# Altium footprint library Basic.PcbLib: 23 footprints (part 2 of 2)
Each footprint in its own frame and in the unit in brackets; x right, y up, seen from the top. Pads: shape width x height; smd on the part's side, far side on the other; paste and mask are expansions set on the pad; w line width, h text height; cw(c..) or ccw(c..) is an arc to the next point about the centre after c.
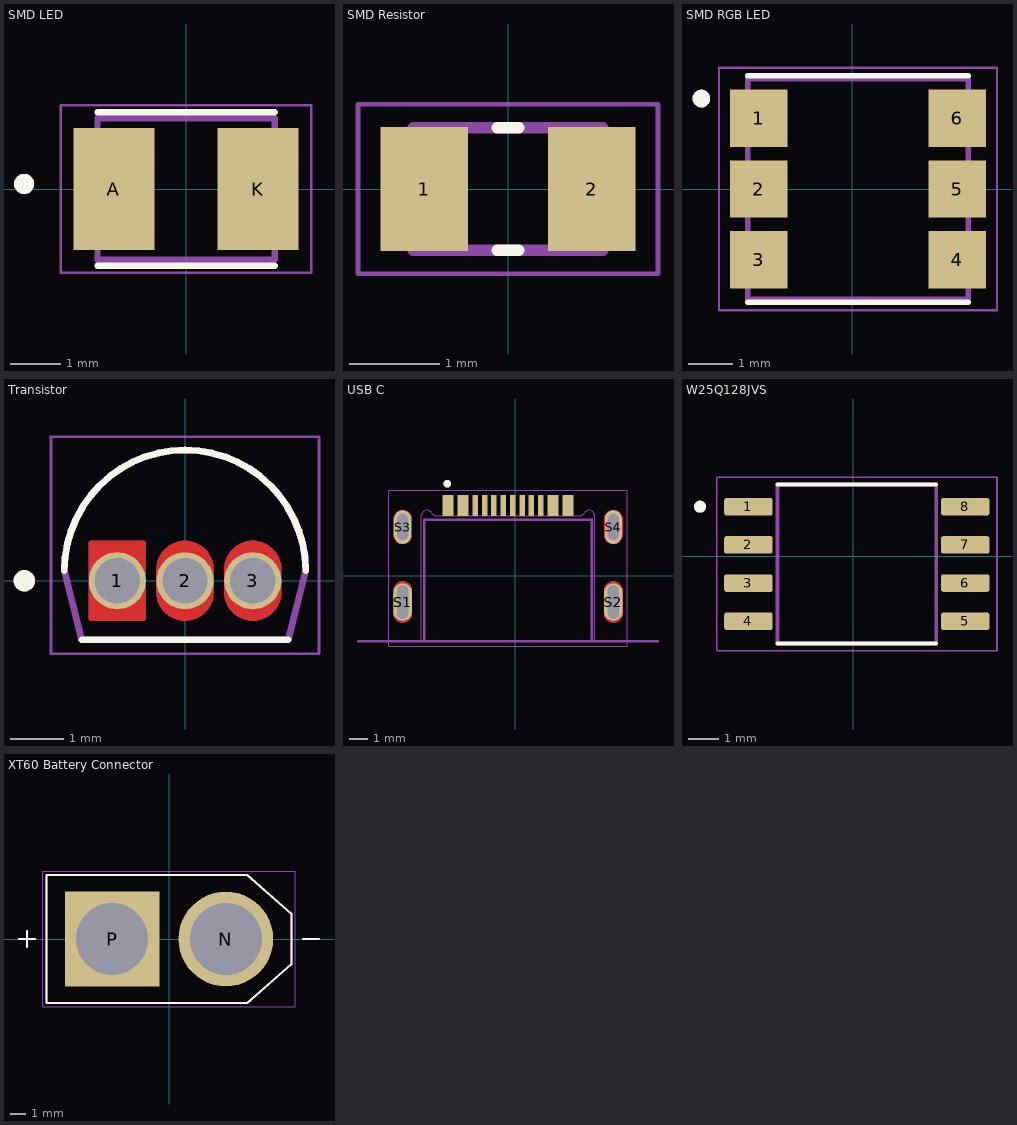
[diagram p1: the footprints below, top view; thin cyan lines are the x and y axes]

## SMD LED [mm]
pads (2):
  rect 1.6x2.4 smd: A(-1.425,0) K(1.425,0)
Top Overlay:
  circle w0.2: c-3.2,0.1 r0.1
  lines w0.127: -1.75,-1.513 1.75,-1.513 ; -1.75,1.513 1.75,1.513
Mechanical 13:
  circle w0.2: c-3.2,0.1 r0.1
  lines w0.127: -1.75,-1.4 1.75,-1.4 1.75,1.4 -1.75,1.4 -1.75,-1.4
Mechanical 15:
  lines w0.05: -2.475,-1.65 2.475,-1.65 2.475,1.65 -2.475,1.65 -2.475,-1.65
3D body "step_temp.STEP": height 1.9, standoff 0, extent -1.75,-1.4 1.75,1.4

## SMD Resistor [mm]
pads (2):
  rect 0.97x1.38 smd: 1(-0.93,0) 2(0.93,0)
Top Overlay:
  lines w0.127: -0.12,-0.68 0.12,-0.68 ; -0.12,0.68 0.12,0.68
Mechanical 13:
  lines w0.127: -1.05,-0.68 -1.05,0.68 1.05,0.68 1.05,-0.68 -1.05,-0.68
Mechanical 15:
  lines w0.05: -1.665,-0.94 -1.665,0.94 1.665,0.94 1.665,-0.94 -1.665,-0.94
3D body "SMDResistor.STEP": height 0.6, standoff 0, extent -0.984,-0.625 1.016,0.625

## SMD RGB LED [mm]
pads (6):
  rect 1.3x1.3 smd: 1(-2.123,1.6) 2(-2.123,0) 3(-2.123,-1.6) 4(2.377,-1.6) 5(2.377,0) 6(2.377,1.6)
Top Overlay:
  circle w0.2: c-3.423,2.05 r0.1
  lines w0.127: -2.373,-2.57 2.627,-2.57 ; -2.373,2.57 2.627,2.57
Mechanical 13:
  circle w0.2: c-3.423,2.05 r0.1
  lines w0.127: -2.373,-2.5 2.627,-2.5 2.627,2.5 -2.373,2.5 -2.373,-2.5
Mechanical 15:
  lines w0.05: -3.023,-2.75 -3.023,2.75 3.277,2.75 3.277,-2.75 -3.023,-2.75
3D body "step_temp.STEP": height 1.6, standoff 0, extent -2.573,-2.5 2.827,2.5

## Transistor [mm]
pads (3):
  round 1.07 hole 0.85 mask+0: 1(-1.27,0) 2(0,0) 3(1.27,0)
Top Layer:
  region: 0.028,0.749 0.056,0.747 0.084,0.743 0.111,0.738 0.138,0.732 0.165,0.724 0.192,0.714 0.218,0.704 0.243,0.692 0.268,0.678 0.291,0.664 0.314,0.648 0.337,0.631 0.358,0.613 0.378,0.593 0.398,0.573 0.416,0.552 0.433,0.529 0.449,0.506 0.463,0.482 0.477,0.458 0.489,0.433 0.499,0.407 0.509,0.38 0.517,0.353 0.523,0.326 0.528,0.299 0.532,0.271 0.534,0.243 0.535,0.215 0.535,-0.215 0.534,-0.243 0.532,-0.271 0.528,-0.299 0.523,-0.326 0.517,-0.353 0.509,-0.38 0.499,-0.407 0.489,-0.433 0.477,-0.458 0.463,-0.482 0.449,-0.506 0.433,-0.529 0.416,-0.552 0.398,-0.573 0.378,-0.593 0.358,-0.613 0.337,-0.631 0.314,-0.648 0.291,-0.664 0.268,-0.678 0.243,-0.692 0.218,-0.704 0.192,-0.714 0.165,-0.724 0.138,-0.732 0.111,-0.738 0.084,-0.743 0.056,-0.747 0.028,-0.749 0,-0.75 -0.028,-0.749 -0.056,-0.747 -0.084,-0.743 -0.111,-0.738 -0.138,-0.732 -0.165,-0.724 -0.192,-0.714 -0.218,-0.704 -0.243,-0.692 -0.267,-0.678 -0.291,-0.664 -0.314,-0.648 -0.337,-0.631 -0.358,-0.613 -0.378,-0.593 -0.398,-0.573 -0.416,-0.552 -0.433,-0.529 -0.449,-0.506 -0.463,-0.482 -0.477,-0.458 -0.489,-0.433 -0.499,-0.407 -0.509,-0.38 -0.517,-0.353 -0.523,-0.326 -0.528,-0.299 -0.532,-0.271 -0.534,-0.243 -0.535,-0.215 -0.535,0.215 -0.534,0.243 -0.532,0.271 -0.528,0.299 -0.523,0.326 -0.517,0.353 -0.509,0.38 -0.499,0.407 -0.489,0.433 -0.477,0.458 -0.463,0.482 -0.449,0.506 -0.433,0.529 -0.416,0.552 -0.398,0.573 -0.378,0.593 -0.358,0.613 -0.337,0.631 -0.314,0.648 -0.291,0.664 -0.267,0.678 -0.243,0.692 -0.218,0.704 -0.192,0.714 -0.165,0.724 -0.138,0.732 -0.111,0.738 -0.084,0.743 -0.056,0.747 -0.028,0.749 0,0.75
  region: 1.298,0.749 1.326,0.747 1.354,0.743 1.381,0.738 1.408,0.732 1.435,0.724 1.462,0.714 1.488,0.704 1.513,0.692 1.538,0.678 1.561,0.664 1.584,0.648 1.607,0.631 1.628,0.613 1.648,0.593 1.668,0.573 1.686,0.552 1.703,0.529 1.719,0.506 1.733,0.482 1.747,0.458 1.759,0.433 1.769,0.407 1.779,0.38 1.787,0.353 1.793,0.326 1.798,0.299 1.802,0.271 1.804,0.243 1.805,0.215 1.805,-0.215 1.804,-0.243 1.802,-0.271 1.798,-0.299 1.793,-0.326 1.787,-0.353 1.779,-0.38 1.769,-0.407 1.759,-0.433 1.747,-0.458 1.733,-0.482 1.719,-0.506 1.703,-0.529 1.686,-0.552 1.668,-0.573 1.648,-0.593 1.628,-0.613 1.607,-0.631 1.584,-0.648 1.561,-0.664 1.538,-0.678 1.513,-0.692 1.488,-0.704 1.462,-0.714 1.435,-0.724 1.408,-0.732 1.381,-0.738 1.354,-0.743 1.326,-0.747 1.298,-0.749 1.27,-0.75 1.242,-0.749 1.214,-0.747 1.186,-0.743 1.159,-0.738 1.132,-0.732 1.105,-0.724 1.078,-0.714 1.052,-0.704 1.027,-0.692 1.003,-0.678 0.979,-0.664 0.956,-0.648 0.933,-0.631 0.912,-0.613 0.892,-0.593 0.872,-0.573 0.854,-0.552 0.837,-0.529 0.821,-0.506 0.807,-0.482 0.793,-0.458 0.781,-0.433 0.771,-0.407 0.761,-0.38 0.753,-0.353 0.747,-0.326 0.742,-0.299 0.738,-0.271 0.736,-0.243 0.735,-0.215 0.735,0.215 0.736,0.243 0.738,0.271 0.742,0.299 0.747,0.326 0.753,0.353 0.761,0.38 0.771,0.407 0.781,0.433 0.793,0.458 0.807,0.482 0.821,0.506 0.837,0.529 0.854,0.552 0.872,0.573 0.892,0.593 0.912,0.613 0.933,0.631 0.956,0.648 0.979,0.664 1.003,0.678 1.027,0.692 1.052,0.704 1.078,0.714 1.105,0.724 1.132,0.732 1.159,0.738 1.186,0.743 1.214,0.747 1.242,0.749 1.27,0.75
  region: -0.777,0.749 -0.775,0.749 -0.772,0.748 -0.77,0.748 -0.767,0.747 -0.765,0.746 -0.762,0.745 -0.76,0.743 -0.758,0.742 -0.756,0.74 -0.754,0.739 -0.752,0.737 -0.75,0.735 -0.748,0.733 -0.746,0.731 -0.745,0.729 -0.743,0.727 -0.742,0.725 -0.74,0.723 -0.739,0.72 -0.738,0.718 -0.737,0.715 -0.737,0.713 -0.736,0.71 -0.736,0.708 -0.735,0.705 -0.735,0.703 -0.735,0.7 -0.735,-0.7 -0.735,-0.703 -0.735,-0.705 -0.736,-0.708 -0.736,-0.71 -0.737,-0.713 -0.737,-0.715 -0.738,-0.718 -0.739,-0.72 -0.74,-0.723 -0.742,-0.725 -0.743,-0.727 -0.745,-0.729 -0.746,-0.731 -0.748,-0.733 -0.75,-0.735 -0.752,-0.737 -0.754,-0.739 -0.756,-0.74 -0.758,-0.742 -0.76,-0.743 -0.762,-0.745 -0.765,-0.746 -0.767,-0.747 -0.77,-0.748 -0.772,-0.748 -0.775,-0.749 -0.777,-0.749 -0.78,-0.75 -1.76,-0.75 -1.763,-0.749 -1.765,-0.749 -1.768,-0.748 -1.77,-0.748 -1.773,-0.747 -1.775,-0.746 -1.778,-0.745 -1.78,-0.743 -1.782,-0.742 -1.784,-0.74 -1.786,-0.739 -1.788,-0.737 -1.79,-0.735 -1.792,-0.733 -1.794,-0.731 -1.795,-0.729 -1.797,-0.727 -1.798,-0.725 -1.8,-0.723 -1.801,-0.72 -1.802,-0.718 -1.803,-0.715 -1.803,-0.713 -1.804,-0.71 -1.804,-0.708 -1.805,-0.705 -1.805,-0.703 -1.805,-0.7 -1.805,0.7 -1.805,0.703 -1.805,0.705 -1.804,0.708 -1.804,0.71 -1.803,0.713 -1.803,0.715 -1.802,0.718 -1.801,0.72 -1.8,0.723 -1.798,0.725 -1.797,0.727 -1.795,0.729 -1.794,0.731 -1.792,0.733 -1.79,0.735 -1.788,0.737 -1.786,0.739 -1.784,0.74 -1.782,0.742 -1.78,0.743 -1.778,0.745 -1.775,0.746 -1.773,0.747 -1.77,0.748 -1.768,0.748 -1.765,0.749 -1.763,0.749 -1.76,0.75 -0.78,0.75
Bottom Layer:
  region: 0.028,0.749 0.056,0.747 0.084,0.743 0.111,0.738 0.138,0.732 0.165,0.724 0.192,0.714 0.218,0.704 0.243,0.692 0.268,0.678 0.291,0.664 0.314,0.648 0.337,0.631 0.358,0.613 0.378,0.593 0.398,0.573 0.416,0.552 0.433,0.529 0.449,0.506 0.463,0.482 0.477,0.458 0.489,0.433 0.499,0.407 0.509,0.38 0.517,0.353 0.523,0.326 0.528,0.299 0.532,0.271 0.534,0.243 0.535,0.215 0.535,-0.215 0.534,-0.243 0.532,-0.271 0.528,-0.299 0.523,-0.326 0.517,-0.353 0.509,-0.38 0.499,-0.407 0.489,-0.433 0.477,-0.458 0.463,-0.482 0.449,-0.506 0.433,-0.529 0.416,-0.552 0.398,-0.573 0.378,-0.593 0.358,-0.613 0.337,-0.631 0.314,-0.648 0.291,-0.664 0.268,-0.678 0.243,-0.692 0.218,-0.704 0.192,-0.714 0.165,-0.724 0.138,-0.732 0.111,-0.738 0.084,-0.743 0.056,-0.747 0.028,-0.749 0,-0.75 -0.028,-0.749 -0.056,-0.747 -0.084,-0.743 -0.111,-0.738 -0.138,-0.732 -0.165,-0.724 -0.192,-0.714 -0.218,-0.704 -0.243,-0.692 -0.267,-0.678 -0.291,-0.664 -0.314,-0.648 -0.337,-0.631 -0.358,-0.613 -0.378,-0.593 -0.398,-0.573 -0.416,-0.552 -0.433,-0.529 -0.449,-0.506 -0.463,-0.482 -0.477,-0.458 -0.489,-0.433 -0.499,-0.407 -0.509,-0.38 -0.517,-0.353 -0.523,-0.326 -0.528,-0.299 -0.532,-0.271 -0.534,-0.243 -0.535,-0.215 -0.535,0.215 -0.534,0.243 -0.532,0.271 -0.528,0.299 -0.523,0.326 -0.517,0.353 -0.509,0.38 -0.499,0.407 -0.489,0.433 -0.477,0.458 -0.463,0.482 -0.449,0.506 -0.433,0.529 -0.416,0.552 -0.398,0.573 -0.378,0.593 -0.358,0.613 -0.337,0.631 -0.314,0.648 -0.291,0.664 -0.267,0.678 -0.243,0.692 -0.218,0.704 -0.192,0.714 -0.165,0.724 -0.138,0.732 -0.111,0.738 -0.084,0.743 -0.056,0.747 -0.028,0.749 0,0.75
  region: 1.298,0.749 1.326,0.747 1.354,0.743 1.381,0.738 1.408,0.732 1.435,0.724 1.462,0.714 1.488,0.704 1.513,0.692 1.538,0.678 1.561,0.664 1.584,0.648 1.607,0.631 1.628,0.613 1.648,0.593 1.668,0.573 1.686,0.552 1.703,0.529 1.719,0.506 1.733,0.482 1.747,0.458 1.759,0.433 1.769,0.407 1.779,0.38 1.787,0.353 1.793,0.326 1.798,0.299 1.802,0.271 1.804,0.243 1.805,0.215 1.805,-0.215 1.804,-0.243 1.802,-0.271 1.798,-0.299 1.793,-0.326 1.787,-0.353 1.779,-0.38 1.769,-0.407 1.759,-0.433 1.747,-0.458 1.733,-0.482 1.719,-0.506 1.703,-0.529 1.686,-0.552 1.668,-0.573 1.648,-0.593 1.628,-0.613 1.607,-0.631 1.584,-0.648 1.561,-0.664 1.538,-0.678 1.513,-0.692 1.488,-0.704 1.462,-0.714 1.435,-0.724 1.408,-0.732 1.381,-0.738 1.354,-0.743 1.326,-0.747 1.298,-0.749 1.27,-0.75 1.242,-0.749 1.214,-0.747 1.186,-0.743 1.159,-0.738 1.132,-0.732 1.105,-0.724 1.078,-0.714 1.052,-0.704 1.027,-0.692 1.003,-0.678 0.979,-0.664 0.956,-0.648 0.933,-0.631 0.912,-0.613 0.892,-0.593 0.872,-0.573 0.854,-0.552 0.837,-0.529 0.821,-0.506 0.807,-0.482 0.793,-0.458 0.781,-0.433 0.771,-0.407 0.761,-0.38 0.753,-0.353 0.747,-0.326 0.742,-0.299 0.738,-0.271 0.736,-0.243 0.735,-0.215 0.735,0.215 0.736,0.243 0.738,0.271 0.742,0.299 0.747,0.326 0.753,0.353 0.761,0.38 0.771,0.407 0.781,0.433 0.793,0.458 0.807,0.482 0.821,0.506 0.837,0.529 0.854,0.552 0.872,0.573 0.892,0.593 0.912,0.613 0.933,0.631 0.956,0.648 0.979,0.664 1.003,0.678 1.027,0.692 1.052,0.704 1.078,0.714 1.105,0.724 1.132,0.732 1.159,0.738 1.186,0.743 1.214,0.747 1.242,0.749 1.27,0.75
  region: -0.777,0.749 -0.775,0.749 -0.772,0.748 -0.77,0.748 -0.767,0.747 -0.765,0.746 -0.762,0.745 -0.76,0.743 -0.758,0.742 -0.756,0.74 -0.754,0.739 -0.752,0.737 -0.75,0.735 -0.748,0.733 -0.746,0.731 -0.745,0.729 -0.743,0.727 -0.742,0.725 -0.74,0.723 -0.739,0.72 -0.738,0.718 -0.737,0.715 -0.737,0.713 -0.736,0.71 -0.736,0.708 -0.735,0.705 -0.735,0.703 -0.735,0.7 -0.735,-0.7 -0.735,-0.703 -0.735,-0.705 -0.736,-0.708 -0.736,-0.71 -0.737,-0.713 -0.737,-0.715 -0.738,-0.718 -0.739,-0.72 -0.74,-0.723 -0.742,-0.725 -0.743,-0.727 -0.745,-0.729 -0.746,-0.731 -0.748,-0.733 -0.75,-0.735 -0.752,-0.737 -0.754,-0.739 -0.756,-0.74 -0.758,-0.742 -0.76,-0.743 -0.762,-0.745 -0.765,-0.746 -0.767,-0.747 -0.77,-0.748 -0.772,-0.748 -0.775,-0.749 -0.777,-0.749 -0.78,-0.75 -1.76,-0.75 -1.763,-0.749 -1.765,-0.749 -1.768,-0.748 -1.77,-0.748 -1.773,-0.747 -1.775,-0.746 -1.778,-0.745 -1.78,-0.743 -1.782,-0.742 -1.784,-0.74 -1.786,-0.739 -1.788,-0.737 -1.79,-0.735 -1.792,-0.733 -1.794,-0.731 -1.795,-0.729 -1.797,-0.727 -1.798,-0.725 -1.8,-0.723 -1.801,-0.72 -1.802,-0.718 -1.803,-0.715 -1.803,-0.713 -1.804,-0.71 -1.804,-0.708 -1.805,-0.705 -1.805,-0.703 -1.805,-0.7 -1.805,0.7 -1.805,0.703 -1.805,0.705 -1.804,0.708 -1.804,0.71 -1.803,0.713 -1.803,0.715 -1.802,0.718 -1.801,0.72 -1.8,0.723 -1.798,0.725 -1.797,0.727 -1.795,0.729 -1.794,0.731 -1.792,0.733 -1.79,0.735 -1.788,0.737 -1.786,0.739 -1.784,0.74 -1.782,0.742 -1.78,0.743 -1.778,0.745 -1.775,0.746 -1.773,0.747 -1.77,0.748 -1.768,0.748 -1.765,0.749 -1.763,0.749 -1.76,0.75 -0.78,0.75
Top Overlay:
  circle w0.2: c-3.013,0 r0.1
  lines w0.127: -2.262,0.19 cw(c0,0.19) 2.262,0.19 ; -1.933,-1.105 1.933,-1.105
Top Solder:
  drawing of 3 lines, arcs and shapes, not listed
Bottom Solder:
  drawing of 3 lines, arcs and shapes, not listed
Mechanical 13:
  circle w0.2: c-3.013,0 r0.1
  lines w0.127: -2.262,0.19 cw(c0,0.19) 2.262,0.19 1.933,-1.105 -1.933,-1.105 -2.262,0.19
Mechanical 15:
  lines w0.05: -2.512,-1.37 -2.512,2.703 2.512,2.703 2.512,-1.37 -2.512,-1.37
3D body "step_temp.STEP": height 6.33, standoff -11.7, extent -2.6,-1.465 2.6,2.728

## USB C [mm]
pads (16):
  rect 0.6x1.1 smd: A1_B12(-3.581,3.753) A4_B9(-2.781,3.753) B1_A12(2.819,3.753) B4_A9(2.019,3.753)
  rect 0.3x1.1 smd: A5(-1.631,3.753) A6(-0.631,3.753) A7(-0.131,3.753) A8(0.869,3.753) B5(1.369,3.753) B6(0.369,3.753) B7(-1.131,3.753) B8(-2.131,3.753)
  oval 1x2 hole 0.6 slot 1.8 at 90 deg mask+0: S1(-6.001,-1.397) S2(5.239,-1.397)
  oval 0.9x1.8 hole 0.6 slot 1.4 at 90 deg mask+0: S3(-6.001,2.603) S4(5.239,2.603)
Top Layer:
  region: -5.949,3.5 -5.897,3.492 -5.846,3.479 -5.798,3.46 -5.751,3.436 -5.707,3.408 -5.666,3.375 -5.629,3.338 -5.596,3.297 -5.568,3.253 -5.544,3.206 -5.525,3.158 -5.512,3.107 -5.504,3.055 -5.501,3.003 -5.501,2.203 -5.504,2.151 -5.512,2.099 -5.525,2.048 -5.544,2 -5.568,1.953 -5.596,1.909 -5.629,1.868 -5.666,1.831 -5.707,1.798 -5.751,1.77 -5.798,1.746 -5.846,1.727 -5.897,1.714 -5.949,1.706 -6.001,1.703 -6.053,1.706 -6.105,1.714 -6.156,1.727 -6.204,1.746 -6.251,1.77 -6.295,1.798 -6.336,1.831 -6.373,1.868 -6.406,1.909 -6.434,1.953 -6.458,2 -6.477,2.048 -6.49,2.099 -6.498,2.151 -6.501,2.203 -6.501,3.003 -6.498,3.055 -6.49,3.107 -6.477,3.158 -6.458,3.206 -6.434,3.253 -6.406,3.297 -6.373,3.338 -6.336,3.375 -6.295,3.408 -6.251,3.436 -6.204,3.46 -6.156,3.479 -6.105,3.492 -6.053,3.5 -6.001,3.503
  region: -5.949,-0.3 -5.897,-0.308 -5.846,-0.321 -5.798,-0.34 -5.751,-0.364 -5.707,-0.392 -5.666,-0.425 -5.629,-0.462 -5.596,-0.503 -5.568,-0.547 -5.544,-0.594 -5.525,-0.642 -5.512,-0.693 -5.504,-0.745 -5.501,-0.797 -5.501,-1.997 -5.504,-2.049 -5.512,-2.101 -5.525,-2.152 -5.544,-2.2 -5.568,-2.247 -5.596,-2.291 -5.629,-2.332 -5.666,-2.369 -5.707,-2.402 -5.751,-2.43 -5.798,-2.454 -5.846,-2.473 -5.897,-2.486 -5.949,-2.494 -6.001,-2.497 -6.053,-2.494 -6.105,-2.486 -6.156,-2.473 -6.204,-2.454 -6.251,-2.43 -6.295,-2.402 -6.336,-2.369 -6.373,-2.332 -6.406,-2.291 -6.434,-2.247 -6.458,-2.2 -6.477,-2.152 -6.49,-2.101 -6.498,-2.049 -6.501,-1.997 -6.501,-0.797 -6.498,-0.745 -6.49,-0.693 -6.477,-0.642 -6.458,-0.594 -6.434,-0.547 -6.406,-0.503 -6.373,-0.462 -6.336,-0.425 -6.295,-0.392 -6.251,-0.364 -6.204,-0.34 -6.156,-0.321 -6.105,-0.308 -6.053,-0.3 -6.001,-0.297
  region: 5.291,3.5 5.343,3.492 5.394,3.479 5.442,3.46 5.489,3.436 5.533,3.408 5.574,3.375 5.611,3.338 5.644,3.297 5.672,3.253 5.696,3.206 5.715,3.158 5.728,3.107 5.736,3.055 5.739,3.003 5.739,2.203 5.736,2.151 5.728,2.099 5.715,2.048 5.696,2 5.672,1.953 5.644,1.909 5.611,1.868 5.574,1.831 5.533,1.798 5.489,1.77 5.442,1.746 5.394,1.727 5.343,1.714 5.291,1.706 5.239,1.703 5.187,1.706 5.135,1.714 5.084,1.727 5.036,1.746 4.989,1.77 4.945,1.798 4.904,1.831 4.867,1.868 4.834,1.909 4.806,1.953 4.782,2 4.763,2.048 4.75,2.099 4.742,2.151 4.739,2.203 4.739,3.003 4.742,3.055 4.75,3.107 4.763,3.158 4.782,3.206 4.806,3.253 4.834,3.297 4.867,3.338 4.904,3.375 4.945,3.408 4.989,3.436 5.036,3.46 5.084,3.479 5.135,3.492 5.187,3.5 5.239,3.503
  region: 5.291,-0.3 5.343,-0.308 5.394,-0.321 5.442,-0.34 5.489,-0.364 5.533,-0.392 5.574,-0.425 5.611,-0.462 5.644,-0.503 5.672,-0.547 5.696,-0.594 5.715,-0.642 5.728,-0.693 5.736,-0.745 5.739,-0.797 5.739,-1.997 5.736,-2.049 5.728,-2.101 5.715,-2.152 5.696,-2.2 5.672,-2.247 5.644,-2.291 5.611,-2.332 5.574,-2.369 5.533,-2.402 5.489,-2.43 5.442,-2.454 5.394,-2.473 5.343,-2.486 5.291,-2.494 5.239,-2.497 5.187,-2.494 5.135,-2.486 5.084,-2.473 5.036,-2.454 4.989,-2.43 4.945,-2.402 4.904,-2.369 4.867,-2.332 4.834,-2.291 4.806,-2.247 4.782,-2.2 4.763,-2.152 4.75,-2.101 4.742,-2.049 4.739,-1.997 4.739,-0.797 4.742,-0.745 4.75,-0.693 4.763,-0.642 4.782,-0.594 4.806,-0.547 4.834,-0.503 4.867,-0.462 4.904,-0.425 4.945,-0.392 4.989,-0.364 5.036,-0.34 5.084,-0.321 5.135,-0.308 5.187,-0.3 5.239,-0.297
Bottom Layer:
  region: -5.949,-0.3 -5.897,-0.308 -5.846,-0.321 -5.798,-0.34 -5.751,-0.364 -5.707,-0.392 -5.666,-0.425 -5.629,-0.462 -5.596,-0.503 -5.568,-0.547 -5.544,-0.594 -5.525,-0.642 -5.512,-0.693 -5.504,-0.745 -5.501,-0.797 -5.501,-1.997 -5.504,-2.049 -5.512,-2.101 -5.525,-2.152 -5.544,-2.2 -5.568,-2.247 -5.596,-2.291 -5.629,-2.332 -5.666,-2.369 -5.707,-2.402 -5.751,-2.43 -5.798,-2.454 -5.846,-2.473 -5.897,-2.486 -5.949,-2.494 -6.001,-2.497 -6.053,-2.494 -6.105,-2.486 -6.156,-2.473 -6.204,-2.454 -6.251,-2.43 -6.295,-2.402 -6.336,-2.369 -6.373,-2.332 -6.406,-2.291 -6.434,-2.247 -6.458,-2.2 -6.477,-2.152 -6.49,-2.101 -6.498,-2.049 -6.501,-1.997 -6.501,-0.797 -6.498,-0.745 -6.49,-0.693 -6.477,-0.642 -6.458,-0.594 -6.434,-0.547 -6.406,-0.503 -6.373,-0.462 -6.336,-0.425 -6.295,-0.392 -6.251,-0.364 -6.204,-0.34 -6.156,-0.321 -6.105,-0.308 -6.053,-0.3 -6.001,-0.297
  region: -5.949,3.5 -5.897,3.492 -5.846,3.479 -5.798,3.46 -5.751,3.436 -5.707,3.408 -5.666,3.375 -5.629,3.338 -5.596,3.297 -5.568,3.253 -5.544,3.206 -5.525,3.158 -5.512,3.107 -5.504,3.055 -5.501,3.003 -5.501,2.203 -5.504,2.151 -5.512,2.099 -5.525,2.048 -5.544,2 -5.568,1.953 -5.596,1.909 -5.629,1.868 -5.666,1.831 -5.707,1.798 -5.751,1.77 -5.798,1.746 -5.846,1.727 -5.897,1.714 -5.949,1.706 -6.001,1.703 -6.053,1.706 -6.105,1.714 -6.156,1.727 -6.204,1.746 -6.251,1.77 -6.295,1.798 -6.336,1.831 -6.373,1.868 -6.406,1.909 -6.434,1.953 -6.458,2 -6.477,2.048 -6.49,2.099 -6.498,2.151 -6.501,2.203 -6.501,3.003 -6.498,3.055 -6.49,3.107 -6.477,3.158 -6.458,3.206 -6.434,3.253 -6.406,3.297 -6.373,3.338 -6.336,3.375 -6.295,3.408 -6.251,3.436 -6.204,3.46 -6.156,3.479 -6.105,3.492 -6.053,3.5 -6.001,3.503
  region: 5.291,3.5 5.343,3.492 5.394,3.479 5.442,3.46 5.489,3.436 5.533,3.408 5.574,3.375 5.611,3.338 5.644,3.297 5.672,3.253 5.696,3.206 5.715,3.158 5.728,3.107 5.736,3.055 5.739,3.003 5.739,2.203 5.736,2.151 5.728,2.099 5.715,2.048 5.696,2 5.672,1.953 5.644,1.909 5.611,1.868 5.574,1.831 5.533,1.798 5.489,1.77 5.442,1.746 5.394,1.727 5.343,1.714 5.291,1.706 5.239,1.703 5.187,1.706 5.135,1.714 5.084,1.727 5.036,1.746 4.989,1.77 4.945,1.798 4.904,1.831 4.867,1.868 4.834,1.909 4.806,1.953 4.782,2 4.763,2.048 4.75,2.099 4.742,2.151 4.739,2.203 4.739,3.003 4.742,3.055 4.75,3.107 4.763,3.158 4.782,3.206 4.806,3.253 4.834,3.297 4.867,3.338 4.904,3.375 4.945,3.408 4.989,3.436 5.036,3.46 5.084,3.479 5.135,3.492 5.187,3.5 5.239,3.503
  region: 5.291,-0.3 5.343,-0.308 5.394,-0.321 5.442,-0.34 5.489,-0.364 5.533,-0.392 5.574,-0.425 5.611,-0.462 5.644,-0.503 5.672,-0.547 5.696,-0.594 5.715,-0.642 5.728,-0.693 5.736,-0.745 5.739,-0.797 5.739,-1.997 5.736,-2.049 5.728,-2.101 5.715,-2.152 5.696,-2.2 5.672,-2.247 5.644,-2.291 5.611,-2.332 5.574,-2.369 5.533,-2.402 5.489,-2.43 5.442,-2.454 5.394,-2.473 5.343,-2.486 5.291,-2.494 5.239,-2.497 5.187,-2.494 5.135,-2.486 5.084,-2.473 5.036,-2.454 4.989,-2.43 4.945,-2.402 4.904,-2.369 4.867,-2.332 4.834,-2.291 4.806,-2.247 4.782,-2.2 4.763,-2.152 4.75,-2.101 4.742,-2.049 4.739,-1.997 4.739,-0.797 4.742,-0.745 4.75,-0.693 4.763,-0.642 4.782,-0.594 4.806,-0.547 4.834,-0.503 4.867,-0.462 4.904,-0.425 4.945,-0.392 4.989,-0.364 5.036,-0.34 5.084,-0.321 5.135,-0.308 5.187,-0.3 5.239,-0.297
Top Overlay:
  circle w0.2: c-3.621,4.913 r0.1
Top Solder:
  drawing of 4 lines, arcs and shapes, not listed
Bottom Solder:
  drawing of 4 lines, arcs and shapes, not listed
Mechanical 1:
  lines w0: -5.001,-3.497 4.239,-3.497 4.239,3.203 ccw(c3.939,3.203) 3.679,3.353 cw(c3.419,3.503) 3.419,3.203 -4.181,3.203 cw(c-4.181,3.503) -4.441,3.353 ccw(c-4.701,3.203) -5.001,3.203 -5.001,-3.497
Mechanical 13:
  circle w0.2: c-3.621,4.913 r0.1
  lines w0.127: -8.381,-3.497 -4.851,-3.497 ; 7.619,-3.497 4.089,-3.497 ; -4.851,-3.497 4.089,-3.497 ; -4.851,-3.497 -4.851,3.003 4.089,3.003 4.089,-3.497
Mechanical 15:
  lines w0.05: -6.751,-3.747 -6.751,4.553 5.989,4.553 5.989,-3.747 -6.751,-3.747

## W25Q128JVS [mm]
pads (8):
  rrect25% 1.61x0.58 smd: 1(-3.478,1.651) 2(-3.478,0.381) 3(-3.478,-0.889) 4(-3.478,-2.159) 5(3.732,-2.159) 6(3.732,-0.889) 7(3.732,0.381) 8(3.732,1.651)
Top Overlay:
  circle w0.2: c-5.088,1.651 r0.1
  lines w0.127: -2.513,-2.894 2.767,-2.894 ; -2.513,2.386 2.767,2.386
Mechanical 13:
  circle w0.2: c-5.088,1.651 r0.1
  lines w0.127: -2.513,-2.894 2.767,-2.894 2.767,2.386 -2.513,2.386 -2.513,-2.894
Mechanical 15:
  lines w0.05: -4.533,-3.144 4.787,-3.144 4.787,2.636 -4.533,2.636 -4.533,-3.144
3D body "W25Q128JVSIQ.STEP": height 2.16, standoff 0, extent -3.823,-2.894 4.077,2.386

## XT60 Battery Connector [mm]
pads (2):
  round 6 hole 4.55: N(3.6,0)
  rect 6x6 / inner round 6 / far side rect 6x6 hole 4.55: P(-3.6,0)
Top Overlay:
  lines w0.127: -9.5,0 -8.5,0 ; -9,-0.5 -9,0.5 ; 8.5,0 9.5,0 ; -7.75,-4.05 4.95,-4.05 7.75,-1.6 7.75,1.6 4.95,4.05 -7.75,4.05 -7.75,-4.05
Mechanical 13:
  lines w0.127: -9.5,0 -8.5,0 ; -9,-0.5 -9,0.5 ; 8.5,0 9.5,0 ; -7.75,-4.05 4.95,-4.05 7.75,-1.6 7.75,1.6 4.95,4.05 -7.75,4.05 -7.75,-4.05
Mechanical 15:
  lines w0.05: -8,-4.3 -8,4.3 8,4.3 8,-4.3 -8,-4.3
3D body "step_temp.STEP": height 16, standoff -4.5, extent -7.75,-4.05 7.75,4.05